# EAGLE library part 74*00 (library 74xx-eu)
Quad 2-input NAND gate
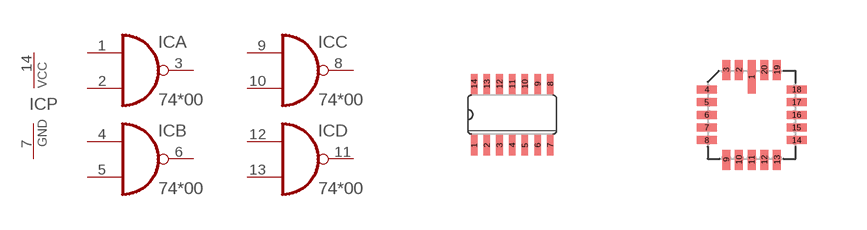
[diagram p0: symbol with the pads of SO14; footprints SO14, LCC20]

Designator prefix IC; gates A=7400 B=7400 C=7400 D=7400 P=PWRN

## 7400D, 74AC00D, 74ACT00D, 74ALS00D, 74AS00D, 74HC00D, 74HCT00D, 74LS00D, 74S00D  [SO14]
1  A:I0  in
2  A:I1  in
3  A:O  out
4  B:I0  in
5  B:I1  in
6  B:O  out
7  P:GND  pwr
8  C:O  out
9  C:I0  in
10  C:I1  in
11  D:O  out
12  D:I0  in
13  D:I1  in
14  P:VCC  pwr

## 7400FK, 74AC00FK, 74ACT00FK, 74ALS00FK, 74AS00FK, 74HC00FK, 74HCT00FK, 74LS00FK, 74S00FK  [LCC20]
2  A:I0  in
3  A:I1  in
4  A:O  out
6  B:I0  in
8  B:I1  in
9  B:O  out
10  P:GND  pwr
12  C:O  out
13  C:I0  in
14  C:I1  in
16  D:O  out
18  D:I0  in
19  D:I1  in
20  P:VCC  pwr

## 7400N, 74AC00N, 74ACT00N, 74ALS00N, 74AS00N, 74HC00N, 74HCT00N, 74LS00N, 74S00N  [DIL14]
Pads as for SO14

## Footprint SO14 (pad centres in mm)
Small Outline package 150 mil
smd 0.165 x 0.508: 1 -0.953,-0.768; 2 -0.635,-0.768; 3 -0.318,-0.768; 4 0,-0.768; 5 0.318,-0.768; 6 0.635,-0.768; 7 0.953,-0.768; 8 0.953,0.768; 9 0.635,0.768; 10 0.318,0.768; 11 0,0.768; 12 -0.318,0.768; 13 -0.635,0.768; 14 -0.953,0.768

## Footprint LCC20 (pad centres in mm)
Leadless Chip Carrier Ceramic Package
smd 0.2 x 0.85: 1 0,0.95
smd 0.2 x 0.5: 2 -0.318,1.125; 3 -0.635,1.125; 9 -0.635,-1.125; 10 -0.318,-1.125; 11 0,-1.125; 12 0.318,-1.125; 13 0.635,-1.125; 19 0.635,1.125; 20 0.318,1.125
smd 0.5 x 0.2: 4 -1.125,0.635; 5 -1.125,0.318; 6 -1.125,0; 7 -1.125,-0.318; 8 -1.125,-0.635; 14 1.125,-0.635; 15 1.125,-0.318; 16 1.125,0; 17 1.125,0.318; 18 1.125,0.635

## Footprint DIL14 (pad centres in mm)
Dual In Line Package
drill 0.203 long: 1 -1.905,-0.953; 2 -1.27,-0.953; 3 -0.635,-0.953; 4 0,-0.953; 5 0.635,-0.953; 6 1.27,-0.953; 7 1.905,-0.953; 8 1.905,0.953; 9 1.27,0.953; 10 0.635,0.953; 11 0,0.953; 12 -0.635,0.953; 13 -1.27,0.953; 14 -1.905,0.953